# Altium schematic symbol library Micron Memory Serial NOR Flash.SchLib: 207 symbols (part 10 of 12)
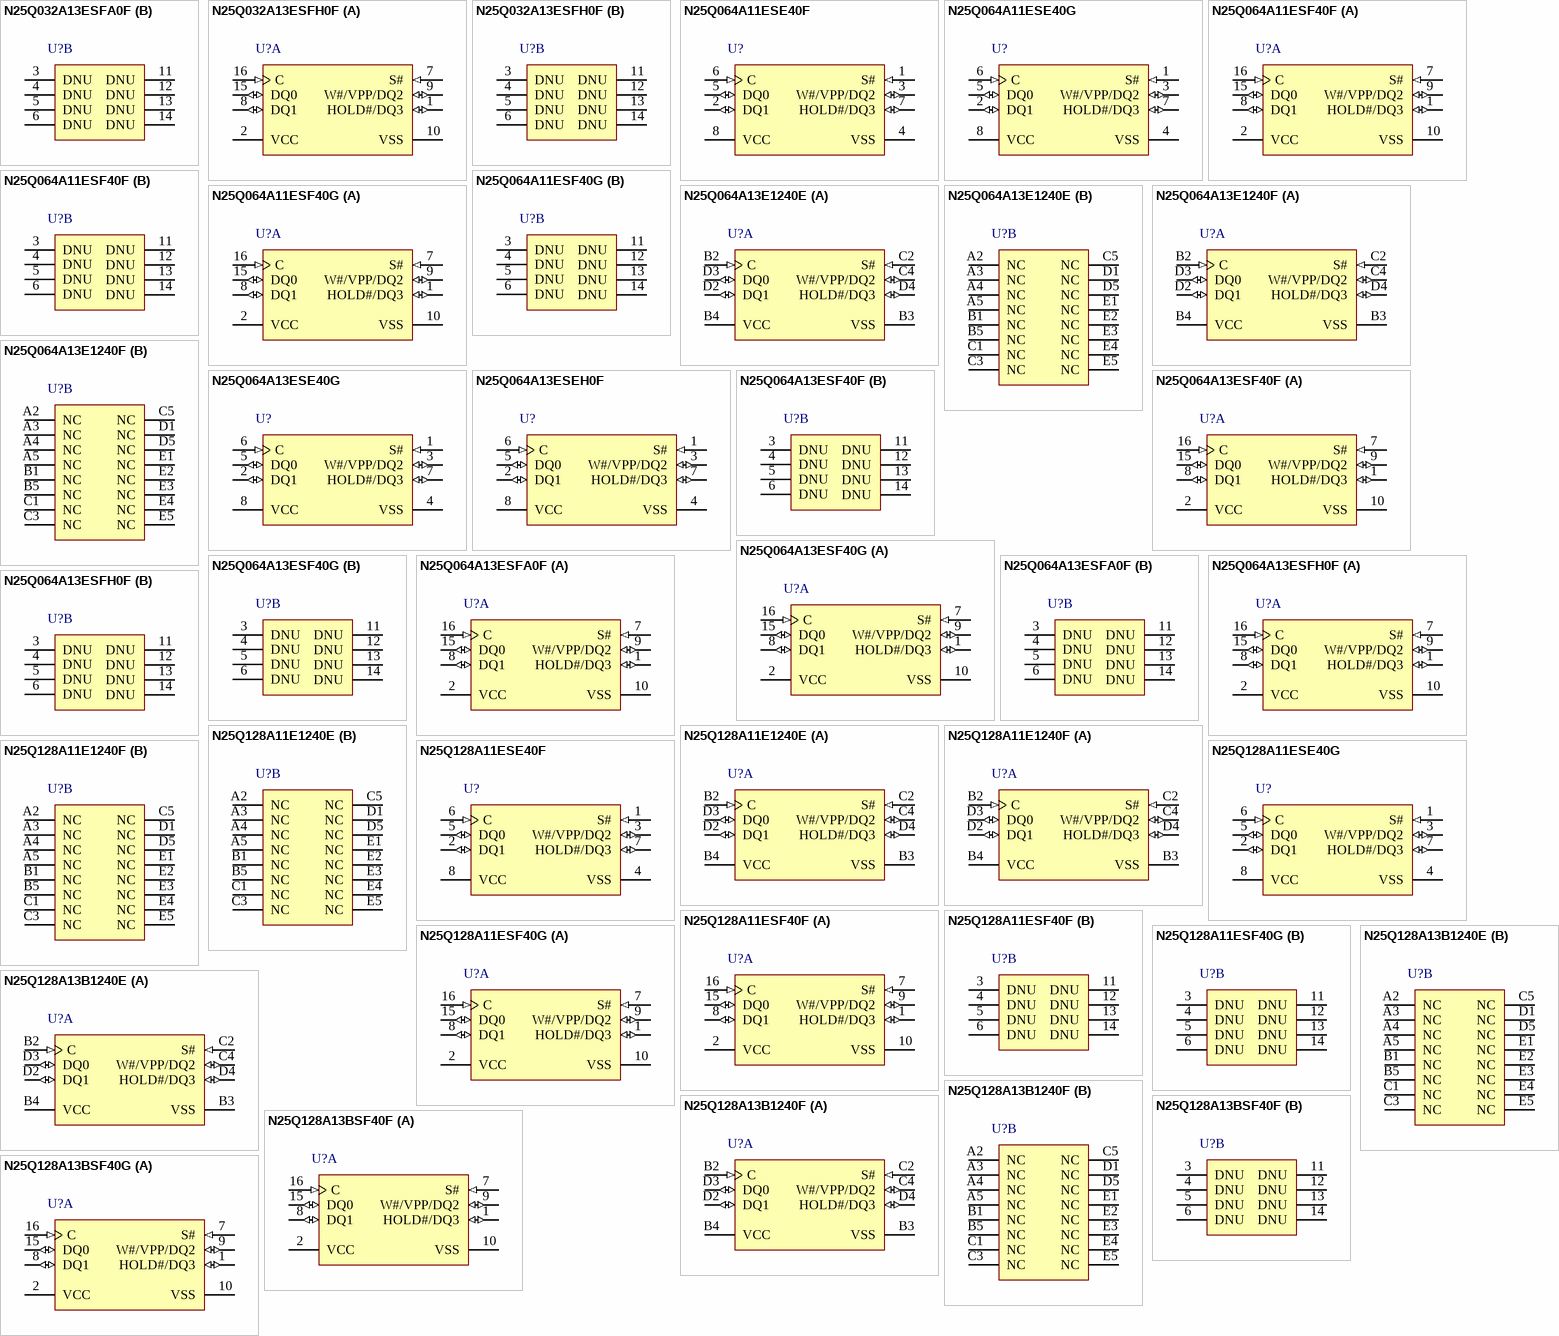
[diagram p16: symbols N25Q032A13ESFA0F to N25Q128A13BSF40G]

## N25Q064A13ESEH0F
designator U?
64 Mb (x1/x2/x4) Automotive Serial NOR Flash Memory with Multi I/O, 108 MHz, 2.7 to 3.6 V, 8-pin SO8 Wide (SE), Tape & Reel; Part Family: N25Q; Manufacturer: Micron; PartNumber: N25Q064A13ESEH0F; Density: 64Mb; Speed: 108 MHz; Voltage: 2.7V-3.6V; DatasheetVersion: Rev. F; PackageVersion: Rev. E; PackageReference: MICT-SE-8; PackageDescription: 8-Pin SO Wide, 5.29 X 5.29 mm, Pitch 1.27 mm; Applications: Automotive; Package: SO8 Wide; Part Status: Sampling; RoHS: Yes; Type: Multi I/O; Width: x1/x2/x4; Mounting Technology: Surface Mount; ComponentLink1Description: Manufacturer URL; ComponentLink1URL: http://www.micron.com/; ComponentLink2Description: Datasheet; ComponentLink2URL: http://www.micron.com/~/media/Documents/Products/Data%20Sheet/NOR%20Flash/Serial%20NOR/N25Q/n25q_64mb_3v_65nm.pdf; ComponentLink3Description: Package Specification; ComponentLink3URL: http://www.micron.com/~/media/Documents/Products/Data%20Sheet/NOR%20Flash/Serial%20NOR/N25Q/n25q_32mb_1_8v_65nm.pdf
footprint MICT-SE-8_N (SOIC, 8-Leads, Body 5.5x5.5mm, Pitch 1.27mm, IPC Medium Density)
pins: 1 S# (in) "Chip select:When S# is HIGH, the device is deselected and DQ1 is at High-Z. When in extended SPI mode, with the device deselected, DQ1 is tri-stated. Unless an internal PROGRAM, ERASE, or WRITE STATUS REGISTER cycle is in (See Datasheet)", 2 DQ1 (io) "Serial data:Transfers data serially out of the device. Data is shifted out on the falling edge of the clock. DQ1 is used for input/output during the following operations: DUAL INPUT FAST PROGRAM, QUAD INPUT FAST PROGRAM, (See Datasheet)", 3 W#/VPP/DQ2 (io) "Write protect:W# can be used as a protection control input or in QIO-SPI operations.Supply voltage:If VPP is in the voltage range of VPPH, the signal acts as an additional power supply, as defined in the AC Measurement (See Datasheet)", 4 VSS (power) "Ground: Reference for the VCC supply voltage.", 5 DQ0 (io) "Serial data: Transfers data serially into the device. It receives command codes, addresses, and the data to be programmed. Values are latched on the rising edge of the clock. DQ0 is used for input/output during the following (See Datasheet)", 6 C (in) "Clock: Provides the timing of the serial interface. Commands, addresses, or data present at serial data inputs are latched on the rising edge of the clock. Data is shifted out on the falling edge of the clock.", 7 HOLD#/DQ3 (io) "HOLD:Pauses any serial communications with the device without deselecting the device.DQ3:When in quad SPI mode or in extended SPI mode using quad FAST READ commands, the signal functions as DQ3, providing input/output.", 8 VCC (power) "Device core power supply: Source voltage."

## N25Q064A13ESF40F
designator U?
64 Mb (x1/x2/x4) Serial NOR Flash Memory with Multi I/O, 108 MHz, 2.7 to 3.6 V, 16-pin SO16 Wide (SF), Tape & Reel; Part Family: N25Q; Manufacturer: Micron; PartNumber: N25Q064A13ESF40F; Density: 64Mb; Speed: 108 MHz; Voltage: 2.7V-3.6V; DatasheetVersion: Rev. F; PackageVersion: Rev. F; PackageReference: MICT-SF-16; PackageDescription: 16-Pin SO Wide, 7.5 X 10.3 mm, Pitch 1.27 mm; Applications: Embedded; Package: SO16 Wide; Part Status: Production; RoHS: Yes; Type: Multi I/O; Width: x1/x2/x4; Mounting Technology: Surface Mount; ComponentLink1Description: Manufacturer URL; ComponentLink1URL: http://www.micron.com/; ComponentLink2Description: Datasheet; ComponentLink2URL: http://www.micron.com/~/media/Documents/Products/Data%20Sheet/NOR%20Flash/Serial%20NOR/N25Q/n25q_64mb_3v_65nm.pdf; ComponentLink3Description: Package Specification; ComponentLink3URL: http://www.micron.com/~/media/Documents/Products/Data%20Sheet/NOR%20Flash/Serial%20NOR/N25Q/n25q_1gb_3v_65nm.pdf
footprint MICT-SF-16_N (SOIC, 16-Leads, Body 10.3x7.5mm, Pitch 1.27mm, IPC Medium Density)
part A pins: 1 HOLD#/DQ3 (io) "HOLD: Pauses any serial communications with the device without deselecting the device. DQ1 (output) is High-Z. DQ0 (input) and the clock are "Don't Care." To enable HOLD, the device must be selected with S# driven LOW;DQ3: (See Datasheet)", 2 VCC (power) "Device core power supply: Source voltage.", 7 S# (in) "Chip select: When S# is HIGH, the device is deselected and DQ1 is at High-Z. When in extended SPI mode, with the device deselected, DQ1 is tri-stated. Unless an internal PROGRAM, ERASE, or WRITE STATUS REGISTER cycle is in (See Datasheet)", 8 DQ1 (io) "Serial data:Transfers data serially out of the device. Data is shifted out on the falling edge of the clock. DQ1 is used for input/output during the following operations: DUAL INPUT FAST PROGRAM, QUAD INPUT FAST PROGRAM, (See Datasheet)", 9 W#/VPP/DQ2 (io) "Write protect: W# can be used as a protection control input or in QIO-SPI operations;Supply voltage: If VPP is in the voltage range of VPPH, the signal acts as an additional power supply, as defined in the AC Measurement (See Datasheet)", 10 VSS (power) "Ground: Reference for the VCC supply voltage.", 15 DQ0 (io) "Serial data: Transfers data serially into the device. It receives command codes, addresses, and the data to be programmed. Values are latched on the rising edge of the clock. DQ0 is used for input/output during the following (See Datasheet)", 16 C (in) "Clock: Provides the timing of the serial interface. Commands, addresses, or data present at serial data inputs are latched on the rising edge of the clock. Data is shifted out on the falling edge of the clock."
part B pins: 3 DNU "Do not use.", 4 DNU "Do not use.", 5 DNU "Do not use.", 6 DNU "Do not use.", 11 DNU "Do not use.", 12 DNU "Do not use.", 13 DNU "Do not use.", 14 DNU "Do not use."

## N25Q064A13ESF40G
designator U?
64 Mb (x1/x2/x4) Serial NOR Flash Memory with Multi I/O, 108 MHz, 2.7 to 3.6 V, 16-pin SO16 Wide (SF), Tube; Part Family: N25Q; Manufacturer: Micron; PartNumber: N25Q064A13ESF40G; Density: 64Mb; Speed: 108 MHz; Voltage: 2.7V-3.6V; DatasheetVersion: Rev. F; PackageVersion: Rev. F; PackageReference: MICT-SF-16; PackageDescription: 16-Pin SO Wide, 7.5 X 10.3 mm, Pitch 1.27 mm; Applications: Embedded; Package: SO16 Wide; Part Status: Production; RoHS: Yes; Type: Multi I/O; Width: x1/x2/x4; Mounting Technology: Surface Mount; ComponentLink1Description: Manufacturer URL; ComponentLink1URL: http://www.micron.com/; ComponentLink2Description: Datasheet; ComponentLink2URL: http://www.micron.com/~/media/Documents/Products/Data%20Sheet/NOR%20Flash/Serial%20NOR/N25Q/n25q_64mb_3v_65nm.pdf; ComponentLink3Description: Package Specification; ComponentLink3URL: http://www.micron.com/~/media/Documents/Products/Data%20Sheet/NOR%20Flash/Serial%20NOR/N25Q/n25q_1gb_3v_65nm.pdf
footprint MICT-SF-16_N (SOIC, 16-Leads, Body 10.3x7.5mm, Pitch 1.27mm, IPC Medium Density)
part A pins: 1 HOLD#/DQ3 (io) "HOLD: Pauses any serial communications with the device without deselecting the device. DQ1 (output) is High-Z. DQ0 (input) and the clock are "Don't Care." To enable HOLD, the device must be selected with S# driven LOW;DQ3: (See Datasheet)", 2 VCC (power) "Device core power supply: Source voltage.", 7 S# (in) "Chip select: When S# is HIGH, the device is deselected and DQ1 is at High-Z. When in extended SPI mode, with the device deselected, DQ1 is tri-stated. Unless an internal PROGRAM, ERASE, or WRITE STATUS REGISTER cycle is in (See Datasheet)", 8 DQ1 (io) "Serial data:Transfers data serially out of the device. Data is shifted out on the falling edge of the clock. DQ1 is used for input/output during the following operations: DUAL INPUT FAST PROGRAM, QUAD INPUT FAST PROGRAM, (See Datasheet)", 9 W#/VPP/DQ2 (io) "Write protect: W# can be used as a protection control input or in QIO-SPI operations;Supply voltage: If VPP is in the voltage range of VPPH, the signal acts as an additional power supply, as defined in the AC Measurement (See Datasheet)", 10 VSS (power) "Ground: Reference for the VCC supply voltage.", 15 DQ0 (io) "Serial data: Transfers data serially into the device. It receives command codes, addresses, and the data to be programmed. Values are latched on the rising edge of the clock. DQ0 is used for input/output during the following (See Datasheet)", 16 C (in) "Clock: Provides the timing of the serial interface. Commands, addresses, or data present at serial data inputs are latched on the rising edge of the clock. Data is shifted out on the falling edge of the clock."
part B pins: 3 DNU "Do not use.", 4 DNU "Do not use.", 5 DNU "Do not use.", 6 DNU "Do not use.", 11 DNU "Do not use.", 12 DNU "Do not use.", 13 DNU "Do not use.", 14 DNU "Do not use."

## N25Q064A13ESFA0F
designator U?
64 Mb (x1/x2/x4) Automotive Serial NOR Flash Memory with Multi I/O, 108 MHz, 2.7 to 3.6 V, 8-pin SO16 Wide (SF), Tape & Reel; Part Family: N25Q; Manufacturer: Micron; PartNumber: N25Q064A13ESFA0F; Density: 64Mb; Speed: 108 MHz; Voltage: 2.7V-3.6V; DatasheetVersion: Rev. F; PackageVersion: Rev. F; PackageReference: MICT-SF-16; PackageDescription: 16-Pin SO Wide, 7.5 X 10.3 mm, Pitch 1.27 mm; Applications: Automotive; Package: SO16 Wide; Part Status: Production; RoHS: Yes; Type: Multi I/O; Width: x1/x2/x4; Mounting Technology: Surface Mount; ComponentLink1Description: Manufacturer URL; ComponentLink1URL: http://www.micron.com/; ComponentLink2Description: Datasheet; ComponentLink2URL: http://www.micron.com/~/media/Documents/Products/Data%20Sheet/NOR%20Flash/Serial%20NOR/N25Q/n25q_64mb_3v_65nm.pdf; ComponentLink3Description: Package Specification; ComponentLink3URL: http://www.micron.com/~/media/Documents/Products/Data%20Sheet/NOR%20Flash/Serial%20NOR/N25Q/n25q_1gb_3v_65nm.pdf
footprint MICT-SF-16_N (SOIC, 16-Leads, Body 10.3x7.5mm, Pitch 1.27mm, IPC Medium Density)
part A pins: 1 HOLD#/DQ3 (io) "HOLD: Pauses any serial communications with the device without deselecting the device. DQ1 (output) is High-Z. DQ0 (input) and the clock are "Don't Care." To enable HOLD, the device must be selected with S# driven LOW;DQ3: (See Datasheet)", 2 VCC (power) "Device core power supply: Source voltage.", 7 S# (in) "Chip select: When S# is HIGH, the device is deselected and DQ1 is at High-Z. When in extended SPI mode, with the device deselected, DQ1 is tri-stated. Unless an internal PROGRAM, ERASE, or WRITE STATUS REGISTER cycle is in (See Datasheet)", 8 DQ1 (io) "Serial data:Transfers data serially out of the device. Data is shifted out on the falling edge of the clock. DQ1 is used for input/output during the following operations: DUAL INPUT FAST PROGRAM, QUAD INPUT FAST PROGRAM, (See Datasheet)", 9 W#/VPP/DQ2 (io) "Write protect: W# can be used as a protection control input or in QIO-SPI operations;Supply voltage: If VPP is in the voltage range of VPPH, the signal acts as an additional power supply, as defined in the AC Measurement (See Datasheet)", 10 VSS (power) "Ground: Reference for the VCC supply voltage.", 15 DQ0 (io) "Serial data: Transfers data serially into the device. It receives command codes, addresses, and the data to be programmed. Values are latched on the rising edge of the clock. DQ0 is used for input/output during the following (See Datasheet)", 16 C (in) "Clock: Provides the timing of the serial interface. Commands, addresses, or data present at serial data inputs are latched on the rising edge of the clock. Data is shifted out on the falling edge of the clock."
part B pins: 3 DNU "Do not use.", 4 DNU "Do not use.", 5 DNU "Do not use.", 6 DNU "Do not use.", 11 DNU "Do not use.", 12 DNU "Do not use.", 13 DNU "Do not use.", 14 DNU "Do not use."

## N25Q064A13ESFH0F
designator U?
64 Mb (x1/x2/x4) Automotive Serial NOR Flash Memory with Multi I/O, 108 MHz, 2.7 to 3.6 V, 8-pin SO16 Wide (SF), Tape & Reel; Part Family: N25Q; Manufacturer: Micron; PartNumber: N25Q064A13ESFH0F; Density: 64Mb; Speed: 108 MHz; Voltage: 2.7V-3.6V; DatasheetVersion: Rev. F; PackageVersion: Rev. F; PackageReference: MICT-SF-16; PackageDescription: 16-Pin SO Wide, 7.5 X 10.3 mm, Pitch 1.27 mm; Applications: Automotive; Package: SO16 Wide; Part Status: Production; RoHS: Yes; Type: Multi I/O; Width: x1/x2/x4; Mounting Technology: Surface Mount; ComponentLink1Description: Manufacturer URL; ComponentLink1URL: http://www.micron.com/; ComponentLink2Description: Datasheet; ComponentLink2URL: http://www.micron.com/~/media/Documents/Products/Data%20Sheet/NOR%20Flash/Serial%20NOR/N25Q/n25q_64mb_3v_65nm.pdf; ComponentLink3Description: Package Specification; ComponentLink3URL: http://www.micron.com/~/media/Documents/Products/Data%20Sheet/NOR%20Flash/Serial%20NOR/N25Q/n25q_1gb_3v_65nm.pdf
footprint MICT-SF-16_N (SOIC, 16-Leads, Body 10.3x7.5mm, Pitch 1.27mm, IPC Medium Density)
part A pins: 1 HOLD#/DQ3 (io) "HOLD: Pauses any serial communications with the device without deselecting the device. DQ1 (output) is High-Z. DQ0 (input) and the clock are "Don't Care." To enable HOLD, the device must be selected with S# driven LOW;DQ3: (See Datasheet)", 2 VCC (power) "Device core power supply: Source voltage.", 7 S# (in) "Chip select: When S# is HIGH, the device is deselected and DQ1 is at High-Z. When in extended SPI mode, with the device deselected, DQ1 is tri-stated. Unless an internal PROGRAM, ERASE, or WRITE STATUS REGISTER cycle is in (See Datasheet)", 8 DQ1 (io) "Serial data:Transfers data serially out of the device. Data is shifted out on the falling edge of the clock. DQ1 is used for input/output during the following operations: DUAL INPUT FAST PROGRAM, QUAD INPUT FAST PROGRAM, (See Datasheet)", 9 W#/VPP/DQ2 (io) "Write protect: W# can be used as a protection control input or in QIO-SPI operations;Supply voltage: If VPP is in the voltage range of VPPH, the signal acts as an additional power supply, as defined in the AC Measurement (See Datasheet)", 10 VSS (power) "Ground: Reference for the VCC supply voltage.", 15 DQ0 (io) "Serial data: Transfers data serially into the device. It receives command codes, addresses, and the data to be programmed. Values are latched on the rising edge of the clock. DQ0 is used for input/output during the following (See Datasheet)", 16 C (in) "Clock: Provides the timing of the serial interface. Commands, addresses, or data present at serial data inputs are latched on the rising edge of the clock. Data is shifted out on the falling edge of the clock."
part B pins: 3 DNU "Do not use.", 4 DNU "Do not use.", 5 DNU "Do not use.", 6 DNU "Do not use.", 11 DNU "Do not use.", 12 DNU "Do not use.", 13 DNU "Do not use.", 14 DNU "Do not use."

## N25Q128A11E1240E
designator U?
128 Mb (x1/x2/x4) Serial NOR Flash Memory with Multi I/O, 108 MHz, 1.7 to 2.0 V, 24-ball T-PBGA (12), Tray; Part Family: N25Q; Manufacturer: Micron; PartNumber: N25Q128A11E1240E; Density: 128Mb; Speed: 108 MHz; Voltage: 1.7V-2.0V; DatasheetVersion: Rev. K; PackageVersion: Rev. F; PackageReference: MICT-12-24; PackageDescription: 24-Ball T-PBGA, 8 X 6 mm, Pitch 1 mm; Applications: Embedded; Package: T-PBGA; Part Status: Production; RoHS: Yes; Type: Multi I/O; Width: x1/x2/x4; Mounting Technology: Surface Mount; ComponentLink1Description: Manufacturer URL; ComponentLink1URL: http://www.micron.com/; ComponentLink2Description: Datasheet; ComponentLink2URL: http://www.micron.com/~/media/Documents/Products/Data%20Sheet/NOR%20Flash/Serial%20NOR/N25Q/n25q_128mb_1_8v_65nm.pdf; ComponentLink3Description: Package Specification; ComponentLink3URL: http://www.micron.com/~/media/Documents/Products/Data%20Sheet/NOR%20Flash/Serial%20NOR/N25Q/n25q_1gb_3v_65nm.pdf
footprint MICT-12-24 (BGA, 24-Balls, Body 8x6mm, Pitch 1 mm)
part A pins: B2 C (in) "Clock: Provides the timing of the serial interface. Commands, addresses, or data present at serial data inputs are latched on the rising edge of the clock. Data is shifted out on the falling edge of the clock", B3 VSS (power) "Ground: Reference for the VCC supply voltage.", B4 VCC (power) "Device core power supply: Source voltage.", C2 S# (in) "Chip select: When S# is HIGH, the device is deselected and DQ1 is at High-Z. When in extended SPI mode, with the device deselected, DQ1 is tri-stated. Unless an internal PROGRAM, ERASE, or WRITE STATUS REGISTER cycle is in (See Datasheet)", C4 W#/VPP/DQ2 (io) "Write protect: W# can be used as a protection control input or in QIO-SPI operations. When in extended SPI with single or dual commands, the WRITE PROTECT function is selectable by the voltage range applied to the signal.(See Datasheet)", D2 DQ1 (io) "Serial data:Transfers data serially out of the device. Data is shifted out on the falling edge of the clock. DQ1 is used for input/output during the following operations: DUAL INPUT FAST PROGRAM, QUAD INPUT FAST PROGRAM, (See Datasheet)", D3 DQ0 (io) "Serial data: Transfers data serially into the device. It receives command codes, addresses, and the data to be programmed. Values are latched on the rising edge of the clock. DQ0 is used for input/output during the following (See Datasheet)", D4 HOLD#/DQ3 (io) "HOLD: Pauses any serial communications with the device without deselecting the device. DQ1 (output) is High-Z. DQ0 (input) and the clock are "Don't Care." To enable HOLD, the device must be selected with S# driven LOW. DQ3: (See Datasheet)"
part B pins: A2 NC "No connect.", A3 NC "No connect.", A4 NC "No connect.", A5 NC "No connect.", B1 NC "No connect.", B5 NC "No connect.", C1 NC "No connect.", C3 NC "No connect.", C5 NC "No connect.", D1 NC "No connect.", D5 NC "No connect.", E1 NC "No connect.", E2 NC "No connect.", E3 NC "No connect.", E4 NC "No connect.", E5 NC "No connect."

## N25Q128A11E1240F
designator U?
128 Mb (x1/x2/x4) Serial NOR Flash Memory with Multi I/O, 108 MHz, 1.7 to 2.0 V, 24-ball T-PBGA (12), Tape & Reel; Part Family: N25Q; Manufacturer: Micron; PartNumber: N25Q128A11E1240F; Density: 128Mb; Speed: 108 MHz; Voltage: 1.7V-2.0V; DatasheetVersion: Rev. K; PackageVersion: Rev. F; PackageReference: MICT-12-24; PackageDescription: 24-Ball T-PBGA, 8 X 6 mm, Pitch 1 mm; Applications: Embedded; Package: T-PBGA; Part Status: Production; RoHS: Yes; Type: Multi I/O; Width: x1/x2/x4; Mounting Technology: Surface Mount; ComponentLink1Description: Manufacturer URL; ComponentLink1URL: http://www.micron.com/; ComponentLink2Description: Datasheet; ComponentLink2URL: http://www.micron.com/~/media/Documents/Products/Data%20Sheet/NOR%20Flash/Serial%20NOR/N25Q/n25q_128mb_1_8v_65nm.pdf; ComponentLink3Description: Package Specification; ComponentLink3URL: http://www.micron.com/~/media/Documents/Products/Data%20Sheet/NOR%20Flash/Serial%20NOR/N25Q/n25q_1gb_3v_65nm.pdf
footprint MICT-12-24 (BGA, 24-Balls, Body 8x6mm, Pitch 1 mm)
part A pins: B2 C (in) "Clock: Provides the timing of the serial interface. Commands, addresses, or data present at serial data inputs are latched on the rising edge of the clock. Data is shifted out on the falling edge of the clock", B3 VSS (power) "Ground: Reference for the VCC supply voltage.", B4 VCC (power) "Device core power supply: Source voltage.", C2 S# (in) "Chip select: When S# is HIGH, the device is deselected and DQ1 is at High-Z. When in extended SPI mode, with the device deselected, DQ1 is tri-stated. Unless an internal PROGRAM, ERASE, or WRITE STATUS REGISTER cycle is in (See Datasheet)", C4 W#/VPP/DQ2 (io) "Write protect: W# can be used as a protection control input or in QIO-SPI operations. When in extended SPI with single or dual commands, the WRITE PROTECT function is selectable by the voltage range applied to the signal.(See Datasheet)", D2 DQ1 (io) "Serial data:Transfers data serially out of the device. Data is shifted out on the falling edge of the clock. DQ1 is used for input/output during the following operations: DUAL INPUT FAST PROGRAM, QUAD INPUT FAST PROGRAM, (See Datasheet)", D3 DQ0 (io) "Serial data: Transfers data serially into the device. It receives command codes, addresses, and the data to be programmed. Values are latched on the rising edge of the clock. DQ0 is used for input/output during the following (See Datasheet)", D4 HOLD#/DQ3 (io) "HOLD: Pauses any serial communications with the device without deselecting the device. DQ1 (output) is High-Z. DQ0 (input) and the clock are "Don't Care." To enable HOLD, the device must be selected with S# driven LOW. DQ3: (See Datasheet)"
part B pins: A2 NC "No connect.", A3 NC "No connect.", A4 NC "No connect.", A5 NC "No connect.", B1 NC "No connect.", B5 NC "No connect.", C1 NC "No connect.", C3 NC "No connect.", C5 NC "No connect.", D1 NC "No connect.", D5 NC "No connect.", E1 NC "No connect.", E2 NC "No connect.", E3 NC "No connect.", E4 NC "No connect.", E5 NC "No connect."

## N25Q128A11ESE40F
designator U?
128 Mb (x1/x2/x4) Serial NOR Flash Memory with Multi I/O, 108 MHz, 1.7 to 2.0 V, 8-pin SO8 Wide (SE), Tape & Reel; Part Family: N25Q; Manufacturer: Micron; PartNumber: N25Q128A11ESE40F; Density: 128Mb; Speed: 108 MHz; Voltage: 1.7V-2.0V; DatasheetVersion: Rev. K; PackageVersion: Rev. E; PackageReference: MICT-SE-8; PackageDescription: 8-Pin SO Wide, 5.29 X 5.29 mm, Pitch 1.27 mm; Applications: Embedded; Package: SO8 Wide; Part Status: Production; RoHS: Yes; Type: Multi I/O; Width: x1/x2/x4; Mounting Technology: Surface Mount; ComponentLink1Description: Manufacturer URL; ComponentLink1URL: http://www.micron.com/; ComponentLink2Description: Datasheet; ComponentLink2URL: http://www.micron.com/~/media/Documents/Products/Data%20Sheet/NOR%20Flash/Serial%20NOR/N25Q/n25q_128mb_1_8v_65nm.pdf; ComponentLink3Description: Package Specification; ComponentLink3URL: http://www.micron.com/~/media/Documents/Products/Data%20Sheet/NOR%20Flash/Serial%20NOR/N25Q/n25q_32mb_1_8v_65nm.pdf
footprint MICT-SE-8_N (SOIC, 8-Leads, Body 5.5x5.5mm, Pitch 1.27mm, IPC Medium Density)
pins: 1 S# (in) "Chip select: When S# is HIGH, the device is deselected and DQ1 is at High-Z. When in extended SPI mode, with the device deselected, DQ1 is tri-stated. Unless an internal PROGRAM,ERASE, or WRITE STATUS REGISTER cycle is in (See Datasheet)", 2 DQ1 (io) "Serial data:Transfers data serially out of the device. Data is shifted out on the falling edge of the clock. DQ1 is used for input/output during the following operations: DUAL INPUT FAST PROGRAM, QUAD INPUT FAST PROGRAM, (See Datasheet)", 3 W#/VPP/DQ2 (io) "Write protect: W# can be used as a protection control input or in QIO-SPI operations.Supply voltage: If VPP is in the voltage range of VPPH, the signal acts as an additional power supply, as defined in the AC Measurement (See Datasheet)", 4 VSS (power) "Ground: Reference for the VCC supply voltage.", 5 DQ0 (io) "Serial data: Transfers data serially into the device. It receives command codes, addresses, and the data to be programmed. Values are latched on the rising edge of the clock. DQ0 is used for input/output during the following (See Datasheet)", 6 C (in) "Clock: Provides the timing of the serial interface. Commands, addresses, or data present at serial data inputs are latched on the rising edge of the clock. Data is shifted out on the falling edge of the clock.", 7 HOLD#/DQ3 (io) "HOLD: Pauses any serial communications with the device without deselecting the device.DQ3: When in quad SPI mode or in extended SPI mode using quad FAST READ commands, the signal functions as DQ3, providing input/output.", 8 VCC (power) "Device core power supply: Source voltage."

## N25Q128A11ESE40G
designator U?
128 Mb (x1/x2/x4) Serial NOR Flash Memory with Multi I/O, 108 MHz, 1.7 to 2.0 V, 8-pin SO8 Wide (SE), Tube; Part Family: N25Q; Manufacturer: Micron; PartNumber: N25Q128A11ESE40G; Density: 128Mb; Speed: 108 MHz; Voltage: 1.7V-2.0V; DatasheetVersion: Rev. K; PackageVersion: Rev. E; PackageReference: MICT-SE-8; PackageDescription: 8-Pin SO Wide, 5.29 X 5.29 mm, Pitch 1.27 mm; Applications: Embedded; Package: SO8 Wide; Part Status: Production; RoHS: Yes; Type: Multi I/O; Width: x1/x2/x4; Mounting Technology: Surface Mount; ComponentLink1Description: Manufacturer URL; ComponentLink1URL: http://www.micron.com/; ComponentLink2Description: Datasheet; ComponentLink2URL: http://www.micron.com/~/media/Documents/Products/Data%20Sheet/NOR%20Flash/Serial%20NOR/N25Q/n25q_128mb_1_8v_65nm.pdf; ComponentLink3Description: Package Specification; ComponentLink3URL: http://www.micron.com/~/media/Documents/Products/Data%20Sheet/NOR%20Flash/Serial%20NOR/N25Q/n25q_32mb_1_8v_65nm.pdf
footprint MICT-SE-8_N (SOIC, 8-Leads, Body 5.5x5.5mm, Pitch 1.27mm, IPC Medium Density)
pins: 1 S# (in) "Chip select: When S# is HIGH, the device is deselected and DQ1 is at High-Z. When in extended SPI mode, with the device deselected, DQ1 is tri-stated. Unless an internal PROGRAM,ERASE, or WRITE STATUS REGISTER cycle is in (See Datasheet)", 2 DQ1 (io) "Serial data:Transfers data serially out of the device. Data is shifted out on the falling edge of the clock. DQ1 is used for input/output during the following operations: DUAL INPUT FAST PROGRAM, QUAD INPUT FAST PROGRAM, (See Datasheet)", 3 W#/VPP/DQ2 (io) "Write protect: W# can be used as a protection control input or in QIO-SPI operations.Supply voltage: If VPP is in the voltage range of VPPH, the signal acts as an additional power supply, as defined in the AC Measurement (See Datasheet)", 4 VSS (power) "Ground: Reference for the VCC supply voltage.", 5 DQ0 (io) "Serial data: Transfers data serially into the device. It receives command codes, addresses, and the data to be programmed. Values are latched on the rising edge of the clock. DQ0 is used for input/output during the following (See Datasheet)", 6 C (in) "Clock: Provides the timing of the serial interface. Commands, addresses, or data present at serial data inputs are latched on the rising edge of the clock. Data is shifted out on the falling edge of the clock.", 7 HOLD#/DQ3 (io) "HOLD: Pauses any serial communications with the device without deselecting the device.DQ3: When in quad SPI mode or in extended SPI mode using quad FAST READ commands, the signal functions as DQ3, providing input/output.", 8 VCC (power) "Device core power supply: Source voltage."

## N25Q128A11ESF40F
designator U?
128 Mb (x1/x2/x4) Serial NOR Flash Memory with Multi I/O, 108 MHz, 1.7 to 2.0 V, 16-pin SO16 Wide (SF), Tape & Reel; Part Family: N25Q; Manufacturer: Micron; PartNumber: N25Q128A11ESF40F; Density: 128Mb; Speed: 108 MHz; Voltage: 1.7V-2.0V; DatasheetVersion: Rev. K; PackageVersion: Rev. F; PackageReference: MICT-SF-16; PackageDescription: 16-Pin SO Wide, 7.5 X 10.3 mm, Pitch 1.27 mm; Applications: Embedded; Package: SO16 Wide; Part Status: Production; RoHS: Yes; Type: Multi I/O; Width: x1/x2/x4; Mounting Technology: Surface Mount; ComponentLink1Description: Manufacturer URL; ComponentLink1URL: http://www.micron.com/; ComponentLink2Description: Datasheet; ComponentLink2URL: http://www.micron.com/~/media/Documents/Products/Data%20Sheet/NOR%20Flash/Serial%20NOR/N25Q/n25q_128mb_1_8v_65nm.pdf; ComponentLink3Description: Package Specification; ComponentLink3URL: http://www.micron.com/~/media/Documents/Products/Data%20Sheet/NOR%20Flash/Serial%20NOR/N25Q/n25q_1gb_3v_65nm.pdf
footprint MICT-SF-16_N (SOIC, 16-Leads, Body 10.3x7.5mm, Pitch 1.27mm, IPC Medium Density)
part A pins: 1 HOLD#/DQ3 (io) "HOLD: Pauses any serial communications with the device without deselecting the device. DQ1 (output) is High-Z. DQ0 (input) and the clock are "Don't Care." To enable HOLD, the device must be selected with S# driven LOW. DQ3: (See Datasheet)", 2 VCC (power) "Device core power supply: Source voltage.", 7 S# (in) "Chip select: When S# is HIGH, the device is deselected and DQ1 is at High-Z. When in extended SPI mode, with the device deselected, DQ1 is tri-stated. Unless an internal PROGRAM, ERASE, or WRITE STATUS REGISTER cycle is in (See Datasheet)", 8 DQ1 (io) "Serial data:Transfers data serially out of the device. Data is shifted out on the falling edge of the clock. DQ1 is used for input/output during the following operations: DUAL INPUT FAST PROGRAM, QUAD INPUT FAST PROGRAM, (See Datasheet)", 9 W#/VPP/DQ2 (io) "Write protect: W# can be used as a protection control input or in QIO-SPI operations. When in extended SPI with single or dual commands, the WRITE PROTECT function is selectable by the voltage range applied to the signal.(See Datasheet)", 10 VSS (power) "Ground: Reference for the VCC supply voltage.", 15 DQ0 (io) "Serial data: Transfers data serially into the device. It receives command codes, addresses, and the data to be programmed. Values are latched on the rising edge of the clock. DQ0 is used for input/output during the following (See Datasheet)", 16 C (in) "Clock: Provides the timing of the serial interface. Commands, addresses, or data present at serial data inputs are latched on the rising edge of the clock. Data is shifted out on the falling edge of the clock."
part B pins: 3 DNU "Do not use.", 4 DNU "Do not use.", 5 DNU "Do not use.", 6 DNU "Do not use.", 11 DNU "Do not use.", 12 DNU "Do not use.", 13 DNU "Do not use.", 14 DNU "Do not use."

## N25Q128A11ESF40G
designator U?
128 Mb (x1/x2/x4) Serial NOR Flash Memory with Multi I/O, 108 MHz, 1.7 to 2.0 V, 16-pin SO16 Wide (SF), Tube; Part Family: N25Q; Manufacturer: Micron; PartNumber: N25Q128A11ESF40G; Density: 128Mb; Speed: 108 MHz; Voltage: 1.7V-2.0V; DatasheetVersion: Rev. K; PackageVersion: Rev. F; PackageReference: MICT-SF-16; PackageDescription: 16-Pin SO Wide, 7.5 X 10.3 mm, Pitch 1.27 mm; Applications: Embedded; Package: SO16 Wide; Part Status: Production; RoHS: Yes; Type: Multi I/O; Width: x1/x2/x4; Mounting Technology: Surface Mount; ComponentLink1Description: Manufacturer URL; ComponentLink1URL: http://www.micron.com/; ComponentLink2Description: Datasheet; ComponentLink2URL: http://www.micron.com/~/media/Documents/Products/Data%20Sheet/NOR%20Flash/Serial%20NOR/N25Q/n25q_128mb_1_8v_65nm.pdf; ComponentLink3Description: Package Specification; ComponentLink3URL: http://www.micron.com/~/media/Documents/Products/Data%20Sheet/NOR%20Flash/Serial%20NOR/N25Q/n25q_1gb_3v_65nm.pdf
footprint MICT-SF-16_N (SOIC, 16-Leads, Body 10.3x7.5mm, Pitch 1.27mm, IPC Medium Density)
part A pins: 1 HOLD#/DQ3 (io) "HOLD: Pauses any serial communications with the device without deselecting the device. DQ1 (output) is High-Z. DQ0 (input) and the clock are "Don't Care." To enable HOLD, the device must be selected with S# driven LOW. DQ3: (See Datasheet)", 2 VCC (power) "Device core power supply: Source voltage.", 7 S# (in) "Chip select: When S# is HIGH, the device is deselected and DQ1 is at High-Z. When in extended SPI mode, with the device deselected, DQ1 is tri-stated. Unless an internal PROGRAM, ERASE, or WRITE STATUS REGISTER cycle is in (See Datasheet)", 8 DQ1 (io) "Serial data:Transfers data serially out of the device. Data is shifted out on the falling edge of the clock. DQ1 is used for input/output during the following operations: DUAL INPUT FAST PROGRAM, QUAD INPUT FAST PROGRAM, (See Datasheet)", 9 W#/VPP/DQ2 (io) "Write protect: W# can be used as a protection control input or in QIO-SPI operations. When in extended SPI with single or dual commands, the WRITE PROTECT function is selectable by the voltage range applied to the signal.(See Datasheet)", 10 VSS (power) "Ground: Reference for the VCC supply voltage.", 15 DQ0 (io) "Serial data: Transfers data serially into the device. It receives command codes, addresses, and the data to be programmed. Values are latched on the rising edge of the clock. DQ0 is used for input/output during the following (See Datasheet)", 16 C (in) "Clock: Provides the timing of the serial interface. Commands, addresses, or data present at serial data inputs are latched on the rising edge of the clock. Data is shifted out on the falling edge of the clock."
part B pins: 3 DNU "Do not use.", 4 DNU "Do not use.", 5 DNU "Do not use.", 6 DNU "Do not use.", 11 DNU "Do not use.", 12 DNU "Do not use.", 13 DNU "Do not use.", 14 DNU "Do not use."

## N25Q128A13B1240E
designator U?
128 Mb (x1/x2/x4) Serial NOR Flash Memory with Multi I/O, 108 MHz, 2.7 to 3.6 V, 24-ball T-PBGA (12), Tray; Part Family: N25Q; Manufacturer: Micron; PartNumber: N25Q128A13B1240E; Density: 128Mb; Speed: 108 MHz; Voltage: 2.7V-3.6V; DatasheetVersion: Rev 7; PackageVersion: Rev. F; PackageReference: MICT-12-24; PackageDescription: 24-Ball T-PBGA, 8 X 6 mm, Pitch 1 mm; Applications: Embedded; Package: T-PBGA; Part Status: Contact Factory; RoHS: Yes; Type: Multi I/O; Width: x1/x2/x4; Mounting Technology: Surface Mount; ComponentLink1Description: Manufacturer URL; ComponentLink1URL: http://www.micron.com/; ComponentLink2Description: Datasheet; ComponentLink2URL: http://www.micron.com/~/media/Documents/Products/Data%20Sheet/NOR%20Flash/Serial%20NOR/N25Q/N25Q_128_3_Volt_with_boot_sector.pdf; ComponentLink3Description: Package Specification; ComponentLink3URL: http://www.micron.com/~/media/Documents/Products/Data%20Sheet/NOR%20Flash/Serial%20NOR/N25Q/n25q_1gb_3v_65nm.pdf
footprint MICT-12-24 (BGA, 24-Balls, Body 8x6mm, Pitch 1 mm)
part A pins: B2 C (in) "Clock: Provides the timing of the serial interface. Commands, addresses, or data present at serial data inputs are latched on the rising edge of the clock. Data is shifted out on the falling edge of the clock", B3 VSS (power) "Ground: Reference for the VCC supply voltage.", B4 VCC (power) "Device core power supply: Source voltage.", C2 S# (in) "Chip select: When S# is HIGH, the device is deselected and DQ1 is at High-Z. When in extended SPI mode, with the device deselected, DQ1 is tri-stated. Unless an internal PROGRAM, ERASE, or WRITE STATUS REGISTER cycle is in (See Datasheet)", C4 W#/VPP/DQ2 (io) "Write protect: W# can be used as a protection control input or in QIO-SPI operations. When in extended SPI with single or dual commands, the WRITE PROTECT function is selectable by the voltage range applied to the signal.(See Datasheet)", D2 DQ1 (io) "Serial data:Transfers data serially out of the device. Data is shifted out on the falling edge of the clock. DQ1 is used for input/output during the following operations: DUAL INPUT FAST PROGRAM, QUAD INPUT FAST PROGRAM, (See Datasheet)", D3 DQ0 (io) "Serial data: Transfers data serially into the device. It receives command codes, addresses, and the data to be programmed. Values are latched on the rising edge of the clock. DQ0 is used for input/output during the following (See Datasheet)", D4 HOLD#/DQ3 (io) "HOLD: Pauses any serial communications with the device without deselecting the device. DQ1 (output) is High-Z. DQ0 (input) and the clock are "Don't Care." To enable HOLD, the device must be selected with S# driven LOW. DQ3: (See Datasheet)"
part B pins: A2 NC "No connect.", A3 NC "No connect.", A4 NC "No connect.", A5 NC "No connect.", B1 NC "No connect.", B5 NC "No connect.", C1 NC "No connect.", C3 NC "No connect.", C5 NC "No connect.", D1 NC "No connect.", D5 NC "No connect.", E1 NC "No connect.", E2 NC "No connect.", E3 NC "No connect.", E4 NC "No connect.", E5 NC "No connect."

## N25Q128A13B1240F
designator U?
128 Mb (x1/x2/x4) Serial NOR Flash Memory with Multi I/O, 108 MHz, 2.7 to 3.6 V, 24-ball T-PBGA (12), Tape & Reel; Part Family: N25Q; Manufacturer: Micron; PartNumber: N25Q128A13B1240F; Density: 128Mb; Speed: 108 MHz; Voltage: 2.7V-3.6V; DatasheetVersion: Rev 7; PackageVersion: Rev. F; PackageReference: MICT-12-24; PackageDescription: 24-Ball T-PBGA, 8 X 6 mm, Pitch 1 mm; Applications: Embedded; Package: T-PBGA; Part Status: Contact Factory; RoHS: Yes; Type: Multi I/O; Width: x1/x2/x4; Mounting Technology: Surface Mount; ComponentLink1Description: Manufacturer URL; ComponentLink1URL: http://www.micron.com/; ComponentLink2Description: Datasheet; ComponentLink2URL: http://www.micron.com/~/media/Documents/Products/Data%20Sheet/NOR%20Flash/Serial%20NOR/N25Q/N25Q_128_3_Volt_with_boot_sector.pdf; ComponentLink3Description: Package Specification; ComponentLink3URL: http://www.micron.com/~/media/Documents/Products/Data%20Sheet/NOR%20Flash/Serial%20NOR/N25Q/n25q_1gb_3v_65nm.pdf
footprint MICT-12-24 (BGA, 24-Balls, Body 8x6mm, Pitch 1 mm)
part A pins: B2 C (in) "Clock: Provides the timing of the serial interface. Commands, addresses, or data present at serial data inputs are latched on the rising edge of the clock. Data is shifted out on the falling edge of the clock", B3 VSS (power) "Ground: Reference for the VCC supply voltage.", B4 VCC (power) "Device core power supply: Source voltage.", C2 S# (in) "Chip select: When S# is HIGH, the device is deselected and DQ1 is at High-Z. When in extended SPI mode, with the device deselected, DQ1 is tri-stated. Unless an internal PROGRAM, ERASE, or WRITE STATUS REGISTER cycle is in (See Datasheet)", C4 W#/VPP/DQ2 (io) "Write protect: W# can be used as a protection control input or in QIO-SPI operations. When in extended SPI with single or dual commands, the WRITE PROTECT function is selectable by the voltage range applied to the signal.(See Datasheet)", D2 DQ1 (io) "Serial data:Transfers data serially out of the device. Data is shifted out on the falling edge of the clock. DQ1 is used for input/output during the following operations: DUAL INPUT FAST PROGRAM, QUAD INPUT FAST PROGRAM, (See Datasheet)", D3 DQ0 (io) "Serial data: Transfers data serially into the device. It receives command codes, addresses, and the data to be programmed. Values are latched on the rising edge of the clock. DQ0 is used for input/output during the following (See Datasheet)", D4 HOLD#/DQ3 (io) "HOLD: Pauses any serial communications with the device without deselecting the device. DQ1 (output) is High-Z. DQ0 (input) and the clock are "Don't Care." To enable HOLD, the device must be selected with S# driven LOW. DQ3: (See Datasheet)"
part B pins: A2 NC "No connect.", A3 NC "No connect.", A4 NC "No connect.", A5 NC "No connect.", B1 NC "No connect.", B5 NC "No connect.", C1 NC "No connect.", C3 NC "No connect.", C5 NC "No connect.", D1 NC "No connect.", D5 NC "No connect.", E1 NC "No connect.", E2 NC "No connect.", E3 NC "No connect.", E4 NC "No connect.", E5 NC "No connect."

## N25Q128A13BSF40F
designator U?
128 Mb (x1/x2/x4) Serial NOR Flash Memory with Multi I/O, 108 MHz, 2.7 to 3.6 V, 16-pin SO16 Wide (SF), Tape & Reel; Part Family: N25Q; Manufacturer: Micron; PartNumber: N25Q128A13BSF40F; Density: 128Mb; Speed: 108 MHz; Voltage: 2.7V-3.6V; DatasheetVersion: Rev 7; PackageVersion: Rev. F; PackageReference: MICT-SF-16; PackageDescription: 16-Pin SO Wide, 7.5 X 10.3 mm, Pitch 1.27 mm; Applications: Embedded; Package: SO16 Wide; Part Status: Contact Factory; RoHS: Yes; Type: Multi I/O; Width: x1/x2/x4; Mounting Technology: Surface Mount; ComponentLink1Description: Manufacturer URL; ComponentLink1URL: http://www.micron.com/; ComponentLink2Description: Datasheet; ComponentLink2URL: http://www.micron.com/~/media/Documents/Products/Data%20Sheet/NOR%20Flash/Serial%20NOR/N25Q/N25Q_128_3_Volt_with_boot_sector.pdf; ComponentLink3Description: Package Specification; ComponentLink3URL: http://www.micron.com/~/media/Documents/Products/Data%20Sheet/NOR%20Flash/Serial%20NOR/N25Q/n25q_1gb_3v_65nm.pdf
footprint MICT-SF-16_N (SOIC, 16-Leads, Body 10.3x7.5mm, Pitch 1.27mm, IPC Medium Density)
part A pins: 1 HOLD#/DQ3 (io) "HOLD: Pauses any serial communications with the device without deselecting the device. DQ1 (output) is High-Z. DQ0 (input) and the clock are "Don't Care." To enable HOLD, the device must be selected with S# driven LOW. DQ3: (See Datasheet)", 2 VCC (power) "Device core power supply: Source voltage.", 7 S# (in) "Chip select: When S# is HIGH, the device is deselected and DQ1 is at High-Z. When in extended SPI mode, with the device deselected, DQ1 is tri-stated. Unless an internal PROGRAM, ERASE, or WRITE STATUS REGISTER cycle is in (See Datasheet)", 8 DQ1 (io) "Serial data:Transfers data serially out of the device. Data is shifted out on the falling edge of the clock. DQ1 is used for input/output during the following operations: DUAL INPUT FAST PROGRAM, QUAD INPUT FAST PROGRAM, (See Datasheet)", 9 W#/VPP/DQ2 (io) "Write protect: W# can be used as a protection control input or in QIO-SPI operations. When in extended SPI with single or dual commands, the WRITE PROTECT function is selectable by the voltage range applied to the signal.(See Datasheet)", 10 VSS (power) "Ground: Reference for the VCC supply voltage.", 15 DQ0 (io) "Serial data: Transfers data serially into the device. It receives command codes, addresses, and the data to be programmed. Values are latched on the rising edge of the clock. DQ0 is used for input/output during the following (See Datasheet)", 16 C (in) "Clock: Provides the timing of the serial interface. Commands, addresses, or data present at serial data inputs are latched on the rising edge of the clock. Data is shifted out on the falling edge of the clock."
part B pins: 3 DNU "Do not use.", 4 DNU "Do not use.", 5 DNU "Do not use.", 6 DNU "Do not use.", 11 DNU "Do not use.", 12 DNU "Do not use.", 13 DNU "Do not use.", 14 DNU "Do not use."

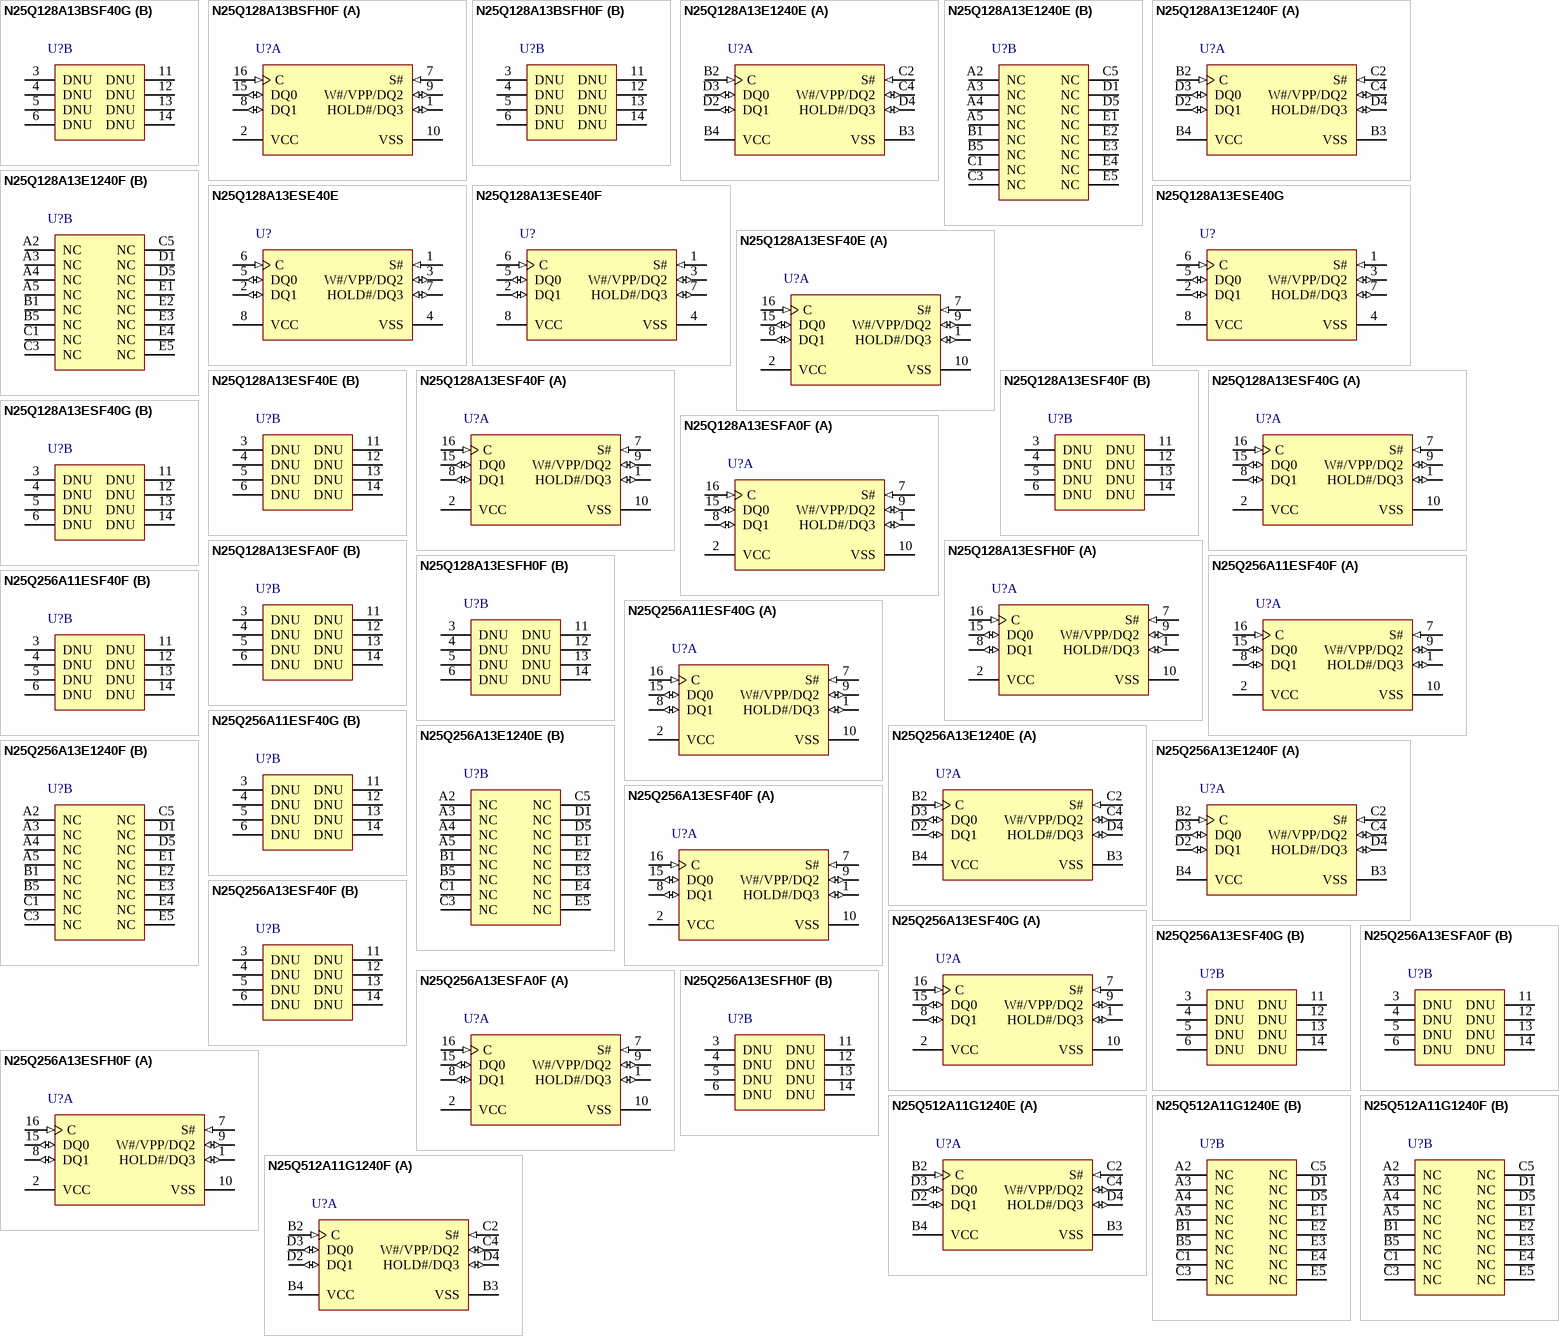
[diagram p6: symbols N25Q128A13BSF40G to N25Q512A11G1240F]

## N25Q128A13BSF40G
designator U?
128 Mb (x1/x2/x4) Serial NOR Flash Memory with Multi I/O, 108 MHz, 2.7 to 3.6 V, 16-pin SO16 Wide (SF), Tube; Part Family: N25Q; Manufacturer: Micron; PartNumber: N25Q128A13BSF40G; Density: 128Mb; Speed: 108 MHz; Voltage: 2.7V-3.6V; DatasheetVersion: Rev 7; PackageVersion: Rev. F; PackageReference: MICT-SF-16; PackageDescription: 16-Pin SO Wide, 7.5 X 10.3 mm, Pitch 1.27 mm; Applications: Embedded; Package: SO16 Wide; Part Status: Contact Factory; RoHS: Yes; Type: Multi I/O; Width: x1/x2/x4; Mounting Technology: Surface Mount; ComponentLink1Description: Manufacturer URL; ComponentLink1URL: http://www.micron.com/; ComponentLink2Description: Datasheet; ComponentLink2URL: http://www.micron.com/~/media/Documents/Products/Data%20Sheet/NOR%20Flash/Serial%20NOR/N25Q/N25Q_128_3_Volt_with_boot_sector.pdf; ComponentLink3Description: Package Specification; ComponentLink3URL: http://www.micron.com/~/media/Documents/Products/Data%20Sheet/NOR%20Flash/Serial%20NOR/N25Q/n25q_1gb_3v_65nm.pdf
footprint MICT-SF-16_N (SOIC, 16-Leads, Body 10.3x7.5mm, Pitch 1.27mm, IPC Medium Density)
part A pins: 1 HOLD#/DQ3 (io) "HOLD: Pauses any serial communications with the device without deselecting the device. DQ1 (output) is High-Z. DQ0 (input) and the clock are "Don't Care." To enable HOLD, the device must be selected with S# driven LOW. DQ3: (See Datasheet)", 2 VCC (power) "Device core power supply: Source voltage.", 7 S# (in) "Chip select: When S# is HIGH, the device is deselected and DQ1 is at High-Z. When in extended SPI mode, with the device deselected, DQ1 is tri-stated. Unless an internal PROGRAM, ERASE, or WRITE STATUS REGISTER cycle is in (See Datasheet)", 8 DQ1 (io) "Serial data:Transfers data serially out of the device. Data is shifted out on the falling edge of the clock. DQ1 is used for input/output during the following operations: DUAL INPUT FAST PROGRAM, QUAD INPUT FAST PROGRAM, (See Datasheet)", 9 W#/VPP/DQ2 (io) "Write protect: W# can be used as a protection control input or in QIO-SPI operations. When in extended SPI with single or dual commands, the WRITE PROTECT function is selectable by the voltage range applied to the signal.(See Datasheet)", 10 VSS (power) "Ground: Reference for the VCC supply voltage.", 15 DQ0 (io) "Serial data: Transfers data serially into the device. It receives command codes, addresses, and the data to be programmed. Values are latched on the rising edge of the clock. DQ0 is used for input/output during the following (See Datasheet)", 16 C (in) "Clock: Provides the timing of the serial interface. Commands, addresses, or data present at serial data inputs are latched on the rising edge of the clock. Data is shifted out on the falling edge of the clock."
part B pins: 3 DNU "Do not use.", 4 DNU "Do not use.", 5 DNU "Do not use.", 6 DNU "Do not use.", 11 DNU "Do not use.", 12 DNU "Do not use.", 13 DNU "Do not use.", 14 DNU "Do not use."

## N25Q128A13BSFH0F
designator U?
128 Mb (x1/x2/x4) Automotive Serial NOR Flash Memory with Multi I/O, 108 MHz, 2.7 to 3.6 V, 16-pin SO16 Wide (SF), Tape & Reel; Part Family: N25Q; Manufacturer: Micron; PartNumber: N25Q128A13BSFH0F; Density: 128Mb; Speed: 108 MHz; Voltage: 2.7V-3.6V; DatasheetVersion: Rev 7; PackageVersion: Rev. F; PackageReference: MICT-SF-16; PackageDescription: 16-Pin SO Wide, 7.5 X 10.3 mm, Pitch 1.27 mm; Applications: Automotive; Package: SO16 Wide; Part Status: Contact Factory; RoHS: Yes; Type: Multi I/O; Width: x1/x2/x4; Mounting Technology: Surface Mount; ComponentLink1Description: Manufacturer URL; ComponentLink1URL: http://www.micron.com/; ComponentLink2Description: Datasheet; ComponentLink2URL: http://www.micron.com/~/media/Documents/Products/Data%20Sheet/NOR%20Flash/Serial%20NOR/N25Q/N25Q_128_3_Volt_with_boot_sector.pdf; ComponentLink3Description: Package Specification; ComponentLink3URL: http://www.micron.com/~/media/Documents/Products/Data%20Sheet/NOR%20Flash/Serial%20NOR/N25Q/n25q_1gb_3v_65nm.pdf
footprint MICT-SF-16_N (SOIC, 16-Leads, Body 10.3x7.5mm, Pitch 1.27mm, IPC Medium Density)
part A pins: 1 HOLD#/DQ3 (io) "HOLD: Pauses any serial communications with the device without deselecting the device. DQ1 (output) is High-Z. DQ0 (input) and the clock are "Don't Care." To enable HOLD, the device must be selected with S# driven LOW. DQ3: (See Datasheet)", 2 VCC (power) "Device core power supply: Source voltage.", 7 S# (in) "Chip select: When S# is HIGH, the device is deselected and DQ1 is at High-Z. When in extended SPI mode, with the device deselected, DQ1 is tri-stated. Unless an internal PROGRAM, ERASE, or WRITE STATUS REGISTER cycle is in (See Datasheet)", 8 DQ1 (io) "Serial data:Transfers data serially out of the device. Data is shifted out on the falling edge of the clock. DQ1 is used for input/output during the following operations: DUAL INPUT FAST PROGRAM, QUAD INPUT FAST PROGRAM, (See Datasheet)", 9 W#/VPP/DQ2 (io) "Write protect: W# can be used as a protection control input or in QIO-SPI operations. When in extended SPI with single or dual commands, the WRITE PROTECT function is selectable by the voltage range applied to the signal.(See Datasheet)", 10 VSS (power) "Ground: Reference for the VCC supply voltage.", 15 DQ0 (io) "Serial data: Transfers data serially into the device. It receives command codes, addresses, and the data to be programmed. Values are latched on the rising edge of the clock. DQ0 is used for input/output during the following (See Datasheet)", 16 C (in) "Clock: Provides the timing of the serial interface. Commands, addresses, or data present at serial data inputs are latched on the rising edge of the clock. Data is shifted out on the falling edge of the clock."
part B pins: 3 DNU "Do not use.", 4 DNU "Do not use.", 5 DNU "Do not use.", 6 DNU "Do not use.", 11 DNU "Do not use.", 12 DNU "Do not use.", 13 DNU "Do not use.", 14 DNU "Do not use."

## N25Q128A13E1240E
designator U?
128 Mb (x1/x2/x4) Serial NOR Flash Memory with Multi I/O, 108 MHz, 2.7 to 3.6 V, 24-ball T-PBGA (12), Tray; Part Family: N25Q; Manufacturer: Micron; PartNumber: N25Q128A13E1240E; Density: 128Mb; Speed: 108 MHz; Voltage: 2.7V-3.6V; DatasheetVersion: Rev. L; PackageVersion: Rev. F; PackageReference: MICT-12-24; PackageDescription: 24-Ball T-PBGA, 8 X 6 mm, Pitch 1 mm; Applications: Embedded; Package: T-PBGA; Part Status: Production; RoHS: Yes; Type: Multi I/O; Width: x1/x2/x4; Mounting Technology: Surface Mount; ComponentLink1Description: Manufacturer URL; ComponentLink1URL: http://www.micron.com/; ComponentLink2Description: Datasheet; ComponentLink2URL: http://www.micron.com/~/media/Documents/Products/Data%20Sheet/NOR%20Flash/Serial%20NOR/N25Q/n25q_128mb_3v_65nm.pdf; ComponentLink3Description: Package Specification; ComponentLink3URL: http://www.micron.com/~/media/Documents/Products/Data%20Sheet/NOR%20Flash/Serial%20NOR/N25Q/n25q_1gb_3v_65nm.pdf
footprint MICT-12-24 (BGA, 24-Balls, Body 8x6mm, Pitch 1 mm)
part A pins: B2 C (in) "Clock: Provides the timing of the serial interface. Commands, addresses, or data present at serial data inputs are latched on the rising edge of the clock. Data is shifted out on the falling edge of the clock", B3 VSS (power) "Ground: Reference for the VCC supply voltage.", B4 VCC (power) "Device core power supply: Source voltage.", C2 S# (in) "Chip select: When S# is HIGH, the device is deselected and DQ1 is at High-Z. When in extended SPI mode, with the device deselected, DQ1 is tri-stated. Unless an internal PROGRAM, ERASE, or WRITE STATUS REGISTER cycle is in (See Datasheet)", C4 W#/VPP/DQ2 (io) "Write protect: W# can be used as a protection control input or in QIO-SPI operations. When in extended SPI with single or dual commands, the WRITE PROTECT function is selectable by the voltage range applied to the signal.(See Datasheet)", D2 DQ1 (io) "Serial data:Transfers data serially out of the device. Data is shifted out on the falling edge of the clock. DQ1 is used for input/output during the following operations: DUAL INPUT FAST PROGRAM, QUAD INPUT FAST PROGRAM, (See Datasheet)", D3 DQ0 (io) "Serial data: Transfers data serially into the device. It receives command codes, addresses, and the data to be programmed. Values are latched on the rising edge of the clock. DQ0 is used for input/output during the following (See Datasheet)", D4 HOLD#/DQ3 (io) "HOLD: Pauses any serial communications with the device without deselecting the device. DQ1 (output) is High-Z. DQ0 (input) and the clock are "Don't Care." To enable HOLD, the device must be selected with S# driven LOW. DQ3: (See Datasheet)"
part B pins: A2 NC "No connect.", A3 NC "No connect.", A4 NC "No connect.", A5 NC "No connect.", B1 NC "No connect.", B5 NC "No connect.", C1 NC "No connect.", C3 NC "No connect.", C5 NC "No connect.", D1 NC "No connect.", D5 NC "No connect.", E1 NC "No connect.", E2 NC "No connect.", E3 NC "No connect.", E4 NC "No connect.", E5 NC "No connect."